# EAGLE library part AD5252 (library disdev)
AD5252 Dual DigPot
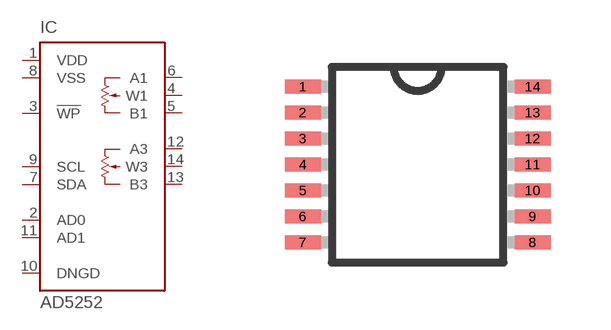
[diagram p0: symbol with the pads of TSSOP14; footprint TSSOP14]

Designator prefix IC

## AD5252  [TSSOP14]
1  VDD  pwr
2  AD0  in
3  !WP  in
4  W1  pas
5  B1  pas
6  A1  pas
7  SDA
8  VSS  pwr
9  SCL  in
10  DNGD  pwr
11  AD1  in
12  A3  pas
13  B3  pas
14  W3  pas

## Footprint TSSOP14 (pad centres in mm)
14-Lead Thin Shrink Small Outline Package [TSSOP] Source: Analog Devices .. 780914713ADD8704_0.pdf
smd 0.9 x 0.35: 1 -2.875,1.95; 2 -2.875,1.3; 3 -2.875,0.65; 4 -2.875,0; 5 -2.875,-0.65; 6 -2.875,-1.3; 7 -2.875,-1.95; 8 2.875,-1.95; 9 2.875,-1.3; 10 2.875,-0.65; 11 2.875,0; 12 2.875,0.65; 13 2.875,1.3; 14 2.875,1.95